# Altium schematic symbol library ALD1105PBL.SchLib: 1 symbol
Pins are listed as number, name and electrical type; pins without a type are passive.

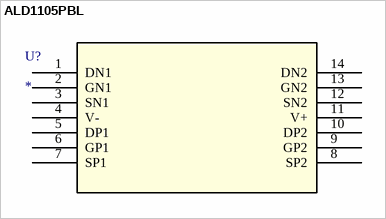
[diagram p0: symbol ALD1105PBL]

## ALD1105PBL
designator U?
No Description Available; Mfr_Name: Advanced Linear Devices; RefDes: RefDes; Type: Type
footprint 14-PDIP_ALD
pins: 1 DN1, 2 GN1, 3 SN1, 4 V- (power), 5 DP1, 6 GP1, 7 SP1, 8 SP2, 9 GP2, 10 DP2, 11 V+ (power), 12 SN2, 13 GN2, 14 DN2